# Altium integrated library Com_Board_2018.IntLib: 5 symbols
Pins are listed as number, name and electrical type; pins without a type are passive.

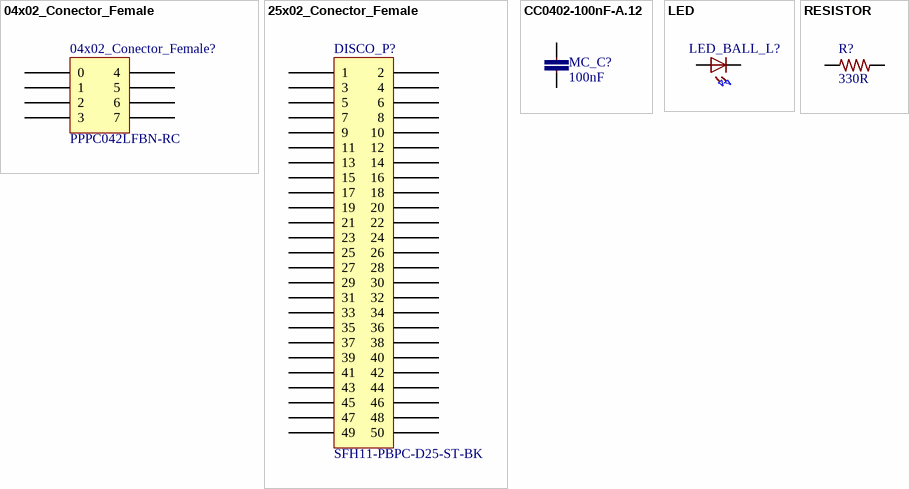
[diagram p0: symbols 04x02_Conector_Female to RESISTOR]

## 04x02_Conector_Female
designator 04x02_Conector_Female?, comment PPPC042LFBN-RC
8 Position Header Connector 0.100" (2.54mm) Through Hole Gold
footprint 04x02_Conector_Female (PPPC042LFBN-RC)
pins: 0, 1, 2, 3, 4, 5, 6, 7

## 25x02_Conector_Female
designator DISCO_P?, comment SFH11-PBPC-D25-ST-BK
50 Position Header Connector 0.100" (2.54mm) Through Hole Gold
footprint 25x02_Conector_Female (SFH11-PBPC-D25-ST-BK)
pins: 1, 2, 3, 4, 5, 6, 7, 8, 9, 10, 11, 12, 13, 14, 15, 16, 17, 18, 19, 20, 21, 22, 23, 24, 25, 26, 27, 28, 29, 30, 31, 32, 33, 34, 35, 36, 37, 38, 39, 40, 41, 42, 43, 44, 45, 46, 47, 48, 49, 50

## CC0402-100nF-A.12
designator MC_C?, comment 100nF
CAP CER 0.1UF 10V 20% X5R 0402; Part No: VJ0402V104ZXQPBC; Cod EMS: 05.281.006.133; Value: 100n
footprint 0402-CAP (Chip Capacitor, Body 1.0x0.5mm, Height 0.6mm, IPC Medium Density)
simulation model Capacitor
pins: 1, 2

## LED
designator LED_BALL_L?  (value not drawn)
LED 5MM PTH
footprint LED-5MM-PCB
pins: 1 K, 2 A

## RESISTOR
designator R?, comment 330R
RES 330 OHM 1/10W 1% 0402 SMD; Part No: ERJ-2RKF3300X; Cod EMS: 05.280.029.506; Value: 330; Family Description: RESISTOR FILME ESPESSO 10R-1M / 1/10W / 1% / 0402. P/N: ERJ-2RKF....X – PANASONIC ELECTRONIC COMPONENTS.; Family: ERJ-2RKF....X
footprint 0402-RES-HD (Chip Resistor, Body 1.0x0.5mm, IPC High Density)
simulation model SimModel1
pins: 1, 2